# Altium footprint library BUTTON-3_4.PcbLib: 1 footprints
Each footprint in its own frame and in the unit in brackets; x right, y up, seen from the top. Pads: shape width x height; smd on the part's side, far side on the other; paste and mask are expansions set on the pad; w line width, h text height; cw(c..) or ccw(c..) is an arc to the next point about the centre after c.
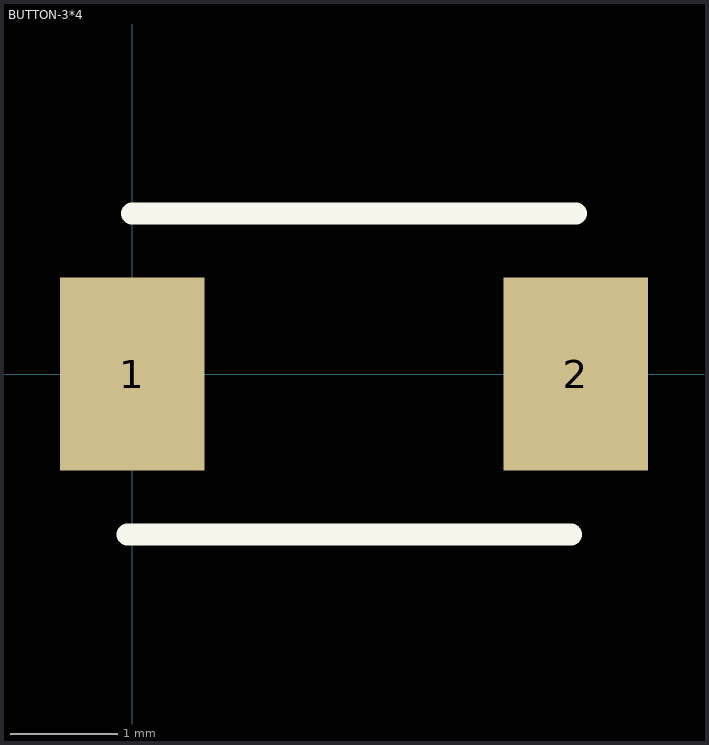
[diagram p0: the footprint, top view; thin cyan lines are the x and y axes]

## BUTTON-3*4 [mm]
pads (2):
  rect 1.35x1.8 smd: 1(0,0) 2(4.15,0)
Top Overlay:
  lines w0.203: -0.043,-1.5 4.107,-1.5 ; 0,1.5 4.15,1.5
3D body "3x4x2 tact button.x_t": height 2, standoff 0, extent -0.468,-1.397 4.532,1.503